# EAGLE library part SMD_STRIP_2X3 (library mastrogippo)
DOUBLE HORIZONTAL TERMINAL STRIP.
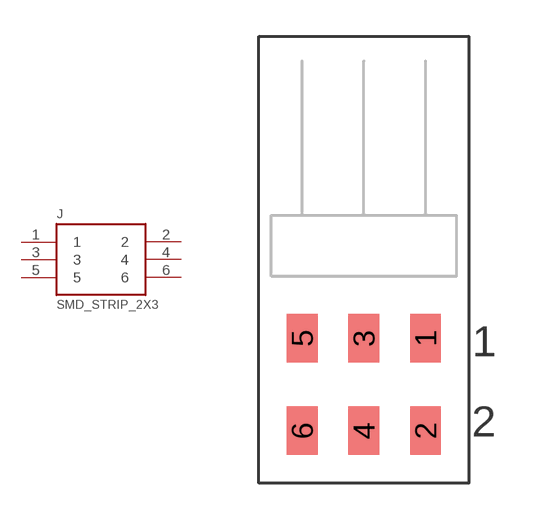
[diagram p36: symbol with the pads of SMD_STRIP_2X3; footprint SMD_STRIP_2X3]

Designator prefix J

## SMD_STRIP_2X3  [SMD_STRIP_2X3]
1  1
2  2
3  3
4  4
5  5
6  6

## Footprint SMD_STRIP_2X3 (pad centres in mm)
DOUBLE HORIZONTAL TERMINAL STRIP.
smd 1.27 x 2: 1 2.54,-2.54; 2 2.54,-6.35; 3 0,-2.54; 4 0,-6.35; 5 -2.54,-2.54; 6 -2.54,-6.35